# EAGLE library part 12 (library Erni-MicroStack)
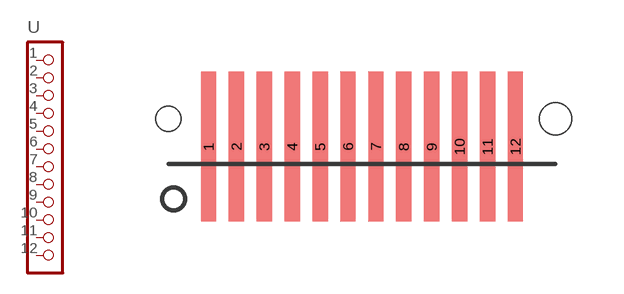
[diagram p3: symbol with the pads of 12X1; footprint 12X1]

Designator prefix -

## 12  [12X1]
1  1
2  2
3  3  pas
4  4  pas
5  5  pas
6  6  pas
7  7  pas
8  8  pas
9  9  pas
10  10  pas
11  11  pas
12  12  pas

## Footprint 12X1 (pad centres in mm)
smd 0.44 x 4.3: 1 -4.4,0.5; 2 -3.6,0.5; 3 -2.8,0.5; 4 -2,0.5; 5 -1.2,0.5; 6 -0.4,0.5; 7 0.4,0.5; 8 1.2,0.5; 9 2,0.5; 10 2.8,0.5; 11 3.6,0.5; 12 4.4,0.5
hole 0.7 at -5.55,1.3
hole 0.9 at 5.55,1.3